# Altium schematic symbol library Mach3.SchLib: 9 symbols
Pins are listed as number, name and electrical type; pins without a type are passive.

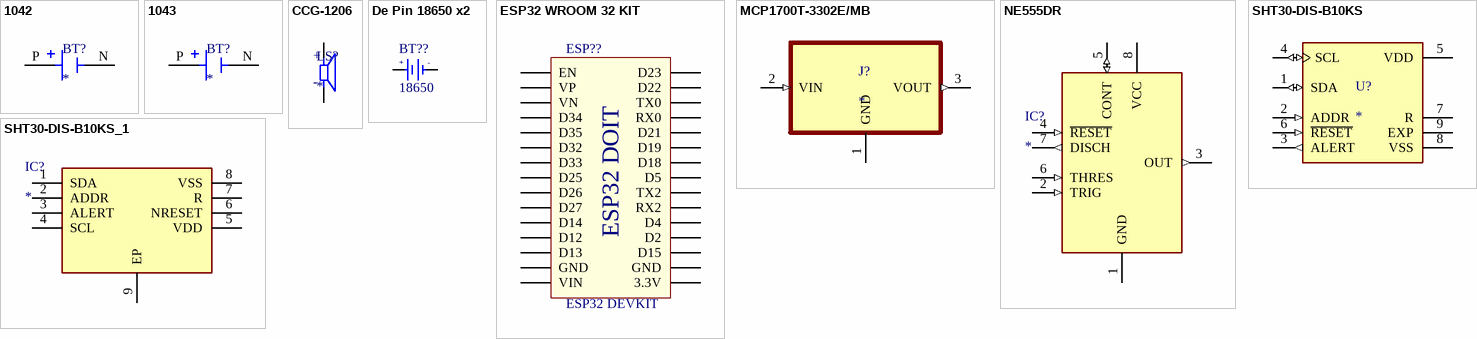
[diagram p0: symbols 1042 to SHT30-DIS-B10KS_1]

## 1042
designator BT?
SMT Holder for 18650 Battery; MF: Keystone Electronics Corp.; MP: 1042; SnapEDA_Link: https://www.snapeda.com/parts/1042/Keystone/view-part/?ref=snap; Package: NON STANDARD-5 Keystone; Value: *; Check_prices: https://www.snapeda.com/parts/1042/Keystone/view-part/?ref=eda
footprint BAT_1042
pins: N NEG, P POS

## 1043
designator BT?
THM Holder for 18650 Battery; MF: Keystone Electronics; MP: 1043; SnapEDA_Link: https://www.snapeda.com/parts/1043/Keystone/view-part/?ref=snap; Package: NON STANDARD-5 Keystone; Value: *; Check_prices: https://www.snapeda.com/parts/1043/Keystone/view-part/?ref=eda
footprint BAT_1043
pins: N NEG, P POS

## CCG-1206
designator LS?
12 mm, 5 V, 85 dB, Through Hole, Sealed, Magnetic Audio Transducer Buzzer; MF: Same Sky; SnapEDA_Link: https://www.snapeda.com/parts/CCG-1206/Same+Sky/view-part/?ref=snap; Package: None; Value: *; MP: CCG-1206; Check_prices: https://www.snapeda.com/parts/CCG-1206/Same+Sky/view-part/?ref=eda
footprint CUI_CCG-1206
pins: M, P
text: +; -

## De Pin 18650 x2
designator BT??, comment 18650
De Pin 18650 x2; Ten: Hộp Đế Pin 18650 Hàn Mạch DP 18650-HM-02; Ma_Hang: MH010812
footprint DE PIN 18650 X2 (2-cell AA battery holder)
pins: 1 +3V, 2 GND
text: +; -

## ESP32 WROOM 32 KIT
designator ESP??, comment ESP32 DEVKIT
footprint ESP32 WROOM 32 KIT
pins: 1 EN, 2 VP, 3 VN, 4 D34, 5 D35, 6 D32, 7 D33, 8 D25, 9 D26, 10 D27, 11 D14, 12 D12, 13 D13, 14 GND, 15 VIN, 16 3.3V, 17 GND, 18 D15, 19 D2, 20 D4, 21 RX2, 22 TX2, 23 D5, 24 D18, 25 D19, 26 D21, 27 RX0, 28 TX0, 29 D22, 30 D23
text: ESP32 DOIT

## MCP1700T-3302E/MB
designator J?
Linear Voltage Regulator IC Positive Fixed 1 Output 250mA SOT-89-3; MF: Microchip; MP: MCP1700T-3302E/MB; Value: *; Check_prices: https://www.snapeda.com/parts/MCP1700T-3302E/MB/Microchip/view-part/?ref=eda; Purchase-URL: https://pricing.snapeda.com/search/part/MCP1700T-3302E/MB/?ref=eda; Price: None; Availability: In Stock; SnapEDA_Link: https://www.snapeda.com/parts/MCP1700T-3302E/MB/Microchip/view-part/?ref=snap; Package: SOT-89 Microchip
footprint MCP1700T-3302E/MB
pins: 1 GND, 2 VIN (in), 3 VOUT (out)

## NE555DR
designator IC?
Integrated Circuit; Manufacturer_Name: Texas Instruments; Manufacturer_Part_Number: NE555DR; Datasheet Link: http://www.ti.com/lit/ds/symlink/ne555.pdf; Height: 1.75mm; Mouser Part Number: 595-NE555DR; Mouser Price/Stock: https://www.mouser.com/Search/Refine.aspx?Keyword=595-NE555DR; RS Part Number: 1218414; RS Price/Stock: http://uk.rs-online.com/web/p/products/1218414
footprint SOIC127P600X175-8N
pins: 1 GND (power), 2 TRIG (in), 3 OUT (out), 4 ~{RESET} (in), 5 CONT (io), 6 THRES (in), 7 DISCH (out), 8 VCC (power)

## SHT30-DIS-B10KS
designator U?
SENSOR HUMID/TEMP 5V I2C 2% SMD; MP: SHT30-DIS-B10KS; Package: None; Price: None; Value: *; Availability: Unavailable
footprint XDCR_SHT30-DIS-B10KS
pins: 1 SDA (io), 2 ADDR (in), 3 ALERT (out), 4 SCL (io), 5 VDD (power), 6 ~{RESET} (in), 7 R, 8 VSS (power), 9 EXP

## SHT30-DIS-B10KS_1
designator IC?
Integrated Circuit; Manufacturer_Name: Sensirion; Manufacturer_Part_Number: SHT30-DIS-B10KS; Datasheet Link: https://datasheet.lcsc.com/lcsc/2106070104_Sensirion-SHT30-DIS-B10KS_C2687423.pdf; Height: 1mm; Mouser Part Number: 403-SHT30-DIS-B10KS; Mouser Price/Stock: https://www.mouser.co.uk/ProductDetail/Sensirion/SHT30-DIS-B10kS?qs=MLItCLRbWsxrR5sxpa2%2FcQ%3D%3D; Arrow Part Number: SHT30-DIS-B10KS; Arrow Price/Stock: https://www.arrow.com/en/products/sht30-dis-b10ks/sensirion-ag?utm_currency=USD&region=nac
footprint SON50P250X250X100-9N-D
pins: 1 SDA, 2 ADDR, 3 ALERT, 4 SCL, 5 VDD, 6 NRESET, 7 R, 8 VSS, 9 EP